# EAGLE library part HAUPTSCHUETZ_3-POL_HILFSKONTAKT_13-14_OHNE_KONTAKTSPIEGEL (library e-schuetze-relais)
Hauptschütz, 3-pol. mit Hilfskontakt-Schließer ohne Kontaktspiegel
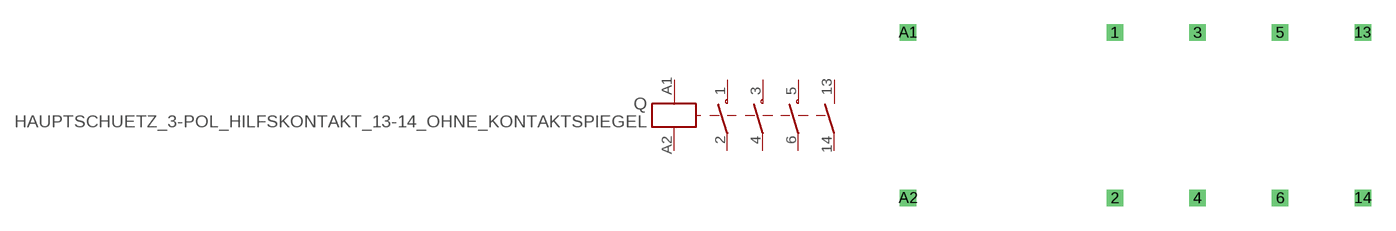
[diagram p13: symbol with the pads of HAUPTSCHUETZ_3-POL+HILFSKONTAKT_13-14_OHNE_KONTAKTSPIEGEL; footprint HAUPTSCHUETZ_3-POL+HILFSKONTAKT_13-14_OHNE_KONTAKTSPIEGEL]

Designator prefix Q

## HAUPTSCHUETZ_3-POL_HILFSKONTAKT_13-14_OHNE_KONTAKTSPIEGEL  [HAUPTSCHUETZ_3-POL+HILFSKONTAKT_13-14_OHNE_KONTAKTSPIEGEL]
1  1  pas
2  2  pas
3  3  pas
4  4  pas
5  5  pas
6  6  pas
13  7  pas
14  8  pas
A1  A1  in
A2  A2  in

## Footprint HAUPTSCHUETZ_3-POL+HILFSKONTAKT_13-14_OHNE_KONTAKTSPIEGEL (pad centres in mm)
Dummy
drill 0.5 pad 1 square: 1 2.54,2.54; 2 2.54,-7.62; 3 7.62,2.54; 4 7.62,-7.62; 5 12.7,2.54; 6 12.7,-7.62; 13 17.78,2.54; 14 17.78,-7.62; A1 -10.16,2.54; A2 -10.16,-7.62